# Altium footprint library VideoSensor.PcbLib: 2 footprints
Each footprint in its own frame and in the unit in brackets; x right, y up, seen from the top. Pads: shape width x height; smd on the part's side, far side on the other; paste and mask are expansions set on the pad; w line width, h text height; cw(c..) or ccw(c..) is an arc to the next point about the centre after c.
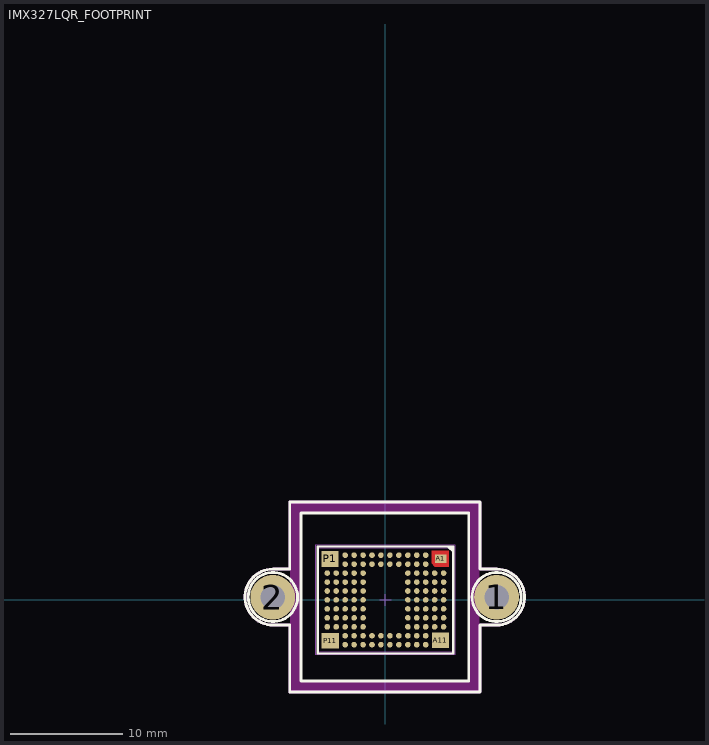
[diagram p0: the footprints below, top view; thin cyan lines are the x and y axes]

## IMX327LQR_FOOTPRINT [mm]
height 1.54
pads (116):
  round 4 hole 2.2: 1(9.942,0.235) 2(-10.058,0.235)
  rect 1x0.75 smd: A1(4.95,3.675)
  round 0.5 smd: A3(5.206,2.389) A4(5.206,1.589) A5(5.206,0.789) A6(5.206,-0.011) A7(5.206,-0.811) A8(5.206,-1.611) A9(5.206,-2.411) B3(4.406,2.389) B4(4.406,1.589) B5(4.406,0.789) B6(4.406,-0.011) B7(4.406,-0.811) B8(4.406,-1.611) B9(4.406,-2.411) C1(3.606,3.989) C2(3.606,3.189) C3(3.606,2.389) C4(3.606,1.589) C5(3.606,0.789) C6(3.606,-0.011) C7(3.606,-0.811) C8(3.606,-1.611) C9(3.606,-2.411) C10(3.606,-3.211) C11(3.606,-4.011) D1(2.806,3.989) D2(2.806,3.189) D3(2.806,2.389) D4(2.806,1.589) D5(2.806,0.789) D6(2.806,-0.011) D7(2.806,-0.811) D8(2.806,-1.611) D9(2.806,-2.411) D10(2.806,-3.211) D11(2.806,-4.011) E1(2.006,3.989) E2(2.006,3.189) E3(2.006,2.389) E4(2.006,1.589) E5(2.006,0.789) E6(2.006,-0.011) E7(2.006,-0.811) E8(2.006,-1.611) E9(2.006,-2.411) E10(2.006,-3.211) E11(2.006,-4.011) F1(1.206,3.989) F2(1.206,3.189) F10(1.206,-3.211) F11(1.206,-4.011) G1(0.406,3.989) G2(0.406,3.189) G10(0.406,-3.211) G11(0.406,-4.011) H1(-0.394,3.989) H2(-0.394,3.189) H10(-0.394,-3.211) H11(-0.394,-4.011) J1(-1.194,3.989) J2(-1.194,3.189) J10(-1.194,-3.211) J11(-1.194,-4.011) K1(-1.994,3.989) K2(-1.994,3.189) K3(-1.994,2.389) K4(-1.994,1.589) K5(-1.994,0.789) K6(-1.994,-0.011) K7(-1.994,-0.811) K8(-1.994,-1.611) K9(-1.994,-2.411) K10(-1.994,-3.211) K11(-1.994,-4.011) L1(-2.794,3.989) L2(-2.794,3.189) L3(-2.794,2.389) L4(-2.794,1.589) L5(-2.794,0.789) L6(-2.794,-0.011) L7(-2.794,-0.811) L8(-2.794,-1.611) L9(-2.794,-2.411) L10(-2.794,-3.211) L11(-2.794,-4.011) M1(-3.594,3.989) M2(-3.594,3.189) M3(-3.594,2.389) M4(-3.594,1.589) M5(-3.594,0.789) M6(-3.594,-0.011) M7(-3.594,-0.811) M8(-3.594,-1.611) M9(-3.594,-2.411) M10(-3.594,-3.211) M11(-3.594,-4.011) N3(-4.394,2.389) N4(-4.394,1.589) N5(-4.394,0.789) N6(-4.394,-0.011) N7(-4.394,-0.811) N8(-4.394,-1.611) N9(-4.394,-2.411) P3(-5.194,2.389) P4(-5.194,1.589) P5(-5.194,0.789) P6(-5.194,-0.011) P7(-5.194,-0.811) P8(-5.194,-1.611) P9(-5.194,-2.411)
  rect 1.55x1.4 smd: A11(4.925,-3.625) P1(-4.95,3.65) P11(-4.925,-3.65)
Top Layer:
  region: 4.125,4.375 5.675,4.375 5.675,2.975 4.425,2.975 4.125,3.275
Top Overlay:
  circle w0.254: c-10.05,0.25 r2.2
  circle w0.254: c9.95,0.25 r2.2
  region: 6.05,4.2 5.55,4.7 6.056,4.689
  region: -7.5,7.5
  region: -21.1,48.625
  lines w0.2: -6.05,-4.8 6.075,-4.8 6.075,4.775 -6.05,4.775 -6.05,-4.8
  lines w0.254: -10.05,-2.25 cw(c-10.05,0.25) -10.05,2.75 -8.55,2.75 -8.55,8.75 -1.55,8.75 8.45,8.75 8.45,2.75 9.95,2.75 cw(c9.95,0.25) 9.95,-2.25 8.45,-2.25 8.45,-8.25 -8.55,-8.25 -8.55,-2.25 -10.05,-2.25 ; -7.55,-7.25 7.45,-7.25 7.45,7.75 -7.55,7.75 -7.55,-7.25 ; 8.5,2.75 8.5,2.75
Keep-Out Layer:
  region: 14.605,7.62
  region: 13.97,8.255
  region: 13.97,8.509
  region: 8.382,8.763 -8.509,8.763 -8.509,-8.255 8.382,-8.255 7.493,-7.366 -7.366,-7.366 -7.493,-7.239 -7.493,7.747 7.366,7.747 7.493,7.62 7.493,-7.366 8.382,-8.255
  region: 15.494,7.874
Top Courtyard:
  lines w0.254: -10.05,-2.25 cw(c-10.05,0.25) -10.05,2.75 -8.55,2.75 -8.55,8.75 -1.55,8.75 8.45,8.75 8.45,2.75 9.95,2.75 cw(c9.95,0.25) 9.95,-2.25 8.45,-2.25 8.45,-8.25 -8.55,-8.25 -8.55,-2.25 -10.05,-2.25 ; 8.5,2.75 8.5,2.75
Mechanical 13:
  lines w0.1: -5.994,-4.661 6.006,-4.661 6.006,4.639 -5.994,4.639 -5.994,-4.661
Mechanical 15:
  lines w0.05: -6.25,-4.873 6.25,-4.873 6.25,4.927 -6.25,4.927 ; -6.244,-4.911 -6.244,4.889
  lines w0.1: -0.494,-0.011 0.506,-0.011 ; 0.006,-0.511 0.006,0.489
3D body: height 17.45, standoff -14.05, extent 16.5,10 16.5,10
3D body "YT1050+H59+IR0716.stp": height 22.04, standoff 0.06, extent -12.1,-17.025 11.9,14.475
3D body "IMX327LQR.step": height 1.54, standoff 0, extent -5.944,-4.711 5.956,4.689

## PCBComponent_1 [mm]